# Altium footprint library LDO.PcbLib: 17 footprints (part 1 of 2)
Each footprint in its own frame and in the unit in brackets; x right, y up, seen from the top. Pads: shape width x height; smd on the part's side, far side on the other; paste and mask are expansions set on the pad; w line width, h text height; cw(c..) or ccw(c..) is an arc to the next point about the centre after c.
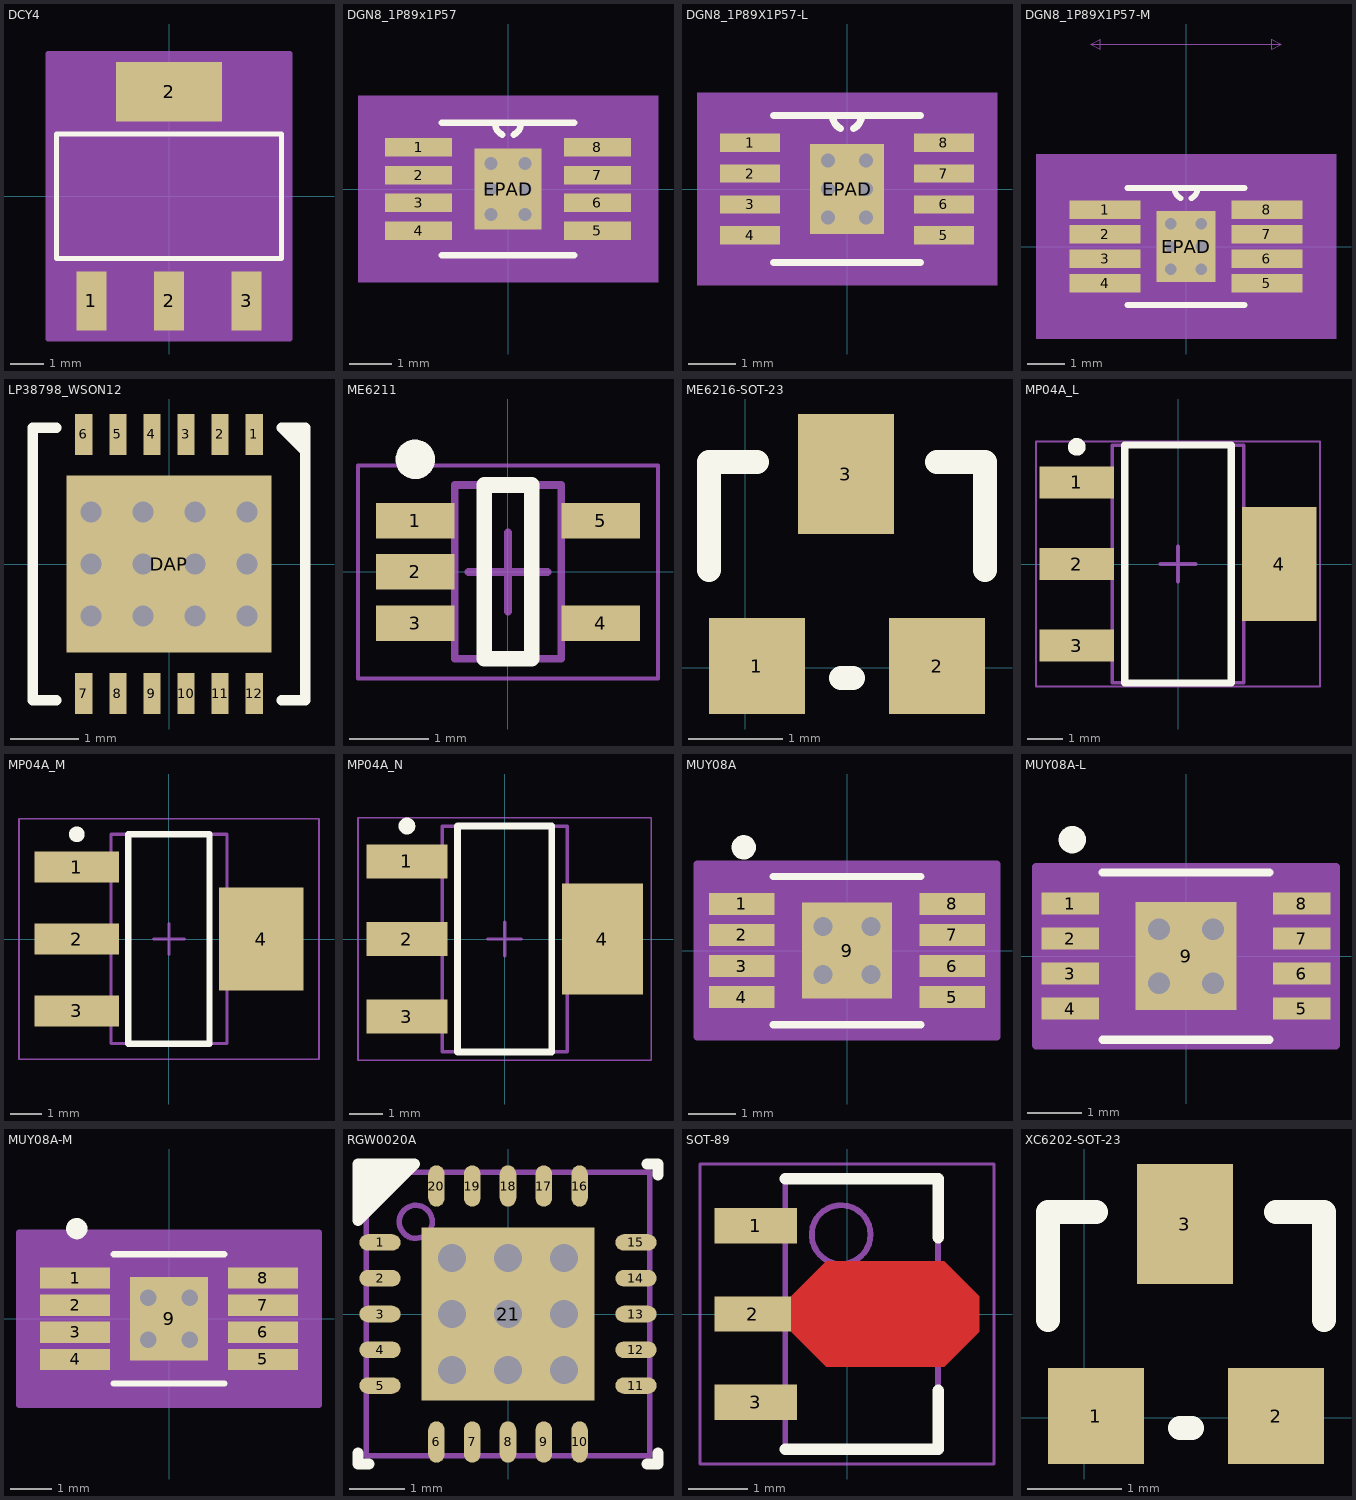
[diagram p0: the footprints below, top view; thin cyan lines are the x and y axes]

## DCY4 [mil]
pads (4):
  rect 35x69.5 smd: 1(-91,-122.75) 2(0,-122.75) 3(91,-122.75)
  rect 124x69.5 smd: 2(0,122.75)
Top Overlay:
  lines w6: -132,-73 -132,73 132,73 132,-73 -132,-73
Mechanical 15:
  region: 142,-167.5 -142,-167.5 -142,167.5 142,167.5
  lines w6: -142,-167.5 142,-167.5 142,167.5 -142,167.5 -142,-167.5
3D body "DCY0004A.stp": height 65.98, standoff 0, extent -127.94,-137 127.96,137.01

## DGN8_1P89x1P57 [mil]
pads (9):
  rect 62x17 smd: 1(-82.5,38.39) 2(-82.5,12.8) 3(-82.5,-12.8) 4(-82.5,-38.39) 5(82.5,-38.39) 6(82.5,-12.8) 7(82.5,12.8) 8(82.5,38.39)
  rect 61.81x74.41 smd paste-36.7: EPAD(0,0)
via -15.75,0 diameter 23.62 hole 11.81
via -15.75,23.62 diameter 23.62 hole 11.81
via 15.75,23.62 diameter 23.62 hole 11.81
via -15.75,-23.62 diameter 23.62 hole 11.81
via 15.75,-23.62 diameter 23.62 hole 11.81
via 15.75,0 diameter 23.62 hole 11.81
Top Overlay:
  lines w6: -61,-61 61,-61 ; -61,61 61,61 ; -12,61 ccw(c0,61) -5.44,50.3 ; 5.44,50.3 ccw(c0,61) 12,61
Top Paste:
  region: 30.91,37.2 -30.91,37.2 -30.91,-37.2 30.91,-37.2
Mechanical 5:
  region: 138.5,-86 -138.5,-86 -138.5,86 138.5,86
Mechanical 13:
  lines w0: -12,61 ccw(c0,61) 12,61
  lines w1: -99.5,-45.89 -61,-45.89 -61,-30.89 -99.5,-30.89 -99.5,-45.89 ; -99.5,-20.3 -61,-20.3 -61,-5.3 -99.5,-5.3 -99.5,-20.3 ; -99.5,5.3 -61,5.3 -61,20.3 -99.5,20.3 -99.5,5.3 ; -99.5,30.89 -61,30.89 -61,45.89 -99.5,45.89 -99.5,30.89 ; -61,-61 -61,61 61,61 61,-61 -61,-61 ; 61,-45.89 99.5,-45.89 99.5,-30.89 61,-30.89 61,-45.89 ; 61,-20.3 99.5,-20.3 99.5,-5.3 61,-5.3 61,-20.3 ; 61,5.3 99.5,5.3 99.5,20.3 61,20.3 61,5.3 ; 61,30.89 99.5,30.89 99.5,45.89 61,45.89 61,30.89
Mechanical 15:
  region: 123.5,-71 -123.5,-71 -123.5,71 123.5,71
  lines w6: -123.5,-71 123.5,-71 123.5,71 -123.5,71 -123.5,-71
3D body: height 10, standoff 0, extent 0,0 10,10

## DGN8_1P89X1P57-L [mil]
pads (9):
  rect 50x15 smd: 1(-80.5,38.39) 2(-80.5,12.8) 3(-80.5,-12.8) 4(-80.5,-38.39) 5(80.5,-38.39) 6(80.5,-12.8) 7(80.5,12.8) 8(80.5,38.39)
  rect 61.81x74.41 smd paste-36.7: EPAD(0,0)
via -15.75,-23.62 diameter 23.62 hole 11.81
via 15.75,0 diameter 23.62 hole 11.81
via -15.75,0 diameter 23.62 hole 11.81
via -15.75,23.62 diameter 23.62 hole 11.81
via 15.75,23.62 diameter 23.62 hole 11.81
via 15.75,-23.62 diameter 23.62 hole 11.81
Top Overlay:
  lines w6: -61,-61 61,-61 ; -61,61 61,61 ; -12,61 ccw(c0,61) -5.44,50.3 ; 5.44,50.3 ccw(c0,61) 12,61
Top Paste:
  region: 30.91,37.2 -30.91,37.2 -30.91,-37.2 30.91,-37.2
Mechanical 5:
  region: 124.5,-80 -124.5,-80 -124.5,80 124.5,80
Mechanical 13:
  lines w0: -12,61 ccw(c0,61) 12,61
  lines w1: -99.5,-45.89 -61,-45.89 -61,-30.89 -99.5,-30.89 -99.5,-45.89 ; -99.5,-20.3 -61,-20.3 -61,-5.3 -99.5,-5.3 -99.5,-20.3 ; -99.5,5.3 -61,5.3 -61,20.3 -99.5,20.3 -99.5,5.3 ; -99.5,30.89 -61,30.89 -61,45.89 -99.5,45.89 -99.5,30.89 ; -61,-61 -61,61 61,61 61,-61 -61,-61 ; 61,-45.89 99.5,-45.89 99.5,-30.89 61,-30.89 61,-45.89 ; 61,-20.3 99.5,-20.3 99.5,-5.3 61,-5.3 61,-20.3 ; 61,5.3 99.5,5.3 99.5,20.3 61,20.3 61,5.3 ; 61,30.89 99.5,30.89 99.5,45.89 61,45.89 61,30.89
Mechanical 15:
  region: 109.5,-65 -109.5,-65 -109.5,65 109.5,65
  lines w6: -109.5,-65 109.5,-65 109.5,65 -109.5,65 -109.5,-65
3D body: height 10, standoff 0, extent 0,0 10,10

## DGN8_1P89X1P57-M [mil]
pads (9):
  rect 74x19 smd: 1(-84.5,38.39) 2(-84.5,12.8) 3(-84.5,-12.8) 4(-84.5,-38.39) 5(84.5,-38.39) 6(84.5,-12.8) 7(84.5,12.8) 8(84.5,38.39)
  rect 61.81x74.41 smd paste-36.7: EPAD(0,0)
via 15.75,23.62 diameter 23.62 hole 11.81
via -15.75,23.62 diameter 23.62 hole 11.81
via 15.75,-23.62 diameter 23.62 hole 11.81
via -15.75,-23.62 diameter 23.62 hole 11.81
via -15.75,0 diameter 23.62 hole 11.81
via 15.75,0 diameter 23.62 hole 11.81
Top Overlay:
  lines w6: -61,-61 61,-61 ; -61,61 61,61 ; -12,61 ccw(c0,61) -5.44,50.3 ; 5.44,50.3 ccw(c0,61) 12,61
Top Paste:
  region: 30.91,37.2 -30.91,37.2 -30.91,-37.2 30.91,-37.2
Mechanical 5:
  region: 156.5,-96 -156.5,-96 -156.5,96 156.5,96
Mechanical 7:
  lines w1: -99.5,211 -89.5,206 -89.5,216 -99.5,211 ; -99.5,211 99.5,211 ; 99.5,211 89.5,206 89.5,216 99.5,211
  text ".199in/5.055mm" at -87.5,231 h25
Mechanical 13:
  lines w0: -12,61 ccw(c0,61) 12,61
  lines w1: -99.5,-45.89 -61,-45.89 -61,-30.89 -99.5,-30.89 -99.5,-45.89 ; -99.5,-20.3 -61,-20.3 -61,-5.3 -99.5,-5.3 -99.5,-20.3 ; -99.5,5.3 -61,5.3 -61,20.3 -99.5,20.3 -99.5,5.3 ; -99.5,30.89 -61,30.89 -61,45.89 -99.5,45.89 -99.5,30.89 ; -61,-61 -61,61 61,61 61,-61 -61,-61 ; 61,-45.89 99.5,-45.89 99.5,-30.89 61,-30.89 61,-45.89 ; 61,-20.3 99.5,-20.3 99.5,-5.3 61,-5.3 61,-20.3 ; 61,5.3 99.5,5.3 99.5,20.3 61,20.3 61,5.3 ; 61,30.89 99.5,30.89 99.5,45.89 61,45.89 61,30.89
Mechanical 15:
  region: 141.5,-81 -141.5,-81 -141.5,81 141.5,81
  lines w6: -141.5,-81 141.5,-81 141.5,81 -141.5,81 -141.5,-81
3D body: height 10, standoff 0, extent 0,0 10,10

## LP38798_WSON12 [mm]
pads (13):
  rect 0.25x0.6 smd: 1(1.25,1.9) 2(0.75,1.9) 3(0.25,1.9) 4(-0.25,1.9) 5(-0.75,1.9) 6(-1.25,1.9) 7(-1.25,-1.9) 8(-0.75,-1.9) 9(-0.25,-1.9) 10(0.25,-1.9) 11(0.75,-1.9) 12(1.25,-1.9)
  rect 3x2.6 smd: DAP(0,0)
via -0.381,0 diameter 0.61 hole 0.305
via 0.381,0 diameter 0.61 hole 0.305
via -0.381,0.762 diameter 0.61 hole 0.305
via 0.381,0.762 diameter 0.61 hole 0.305
via 1.143,0 diameter 0.61 hole 0.305
via -1.143,0 diameter 0.61 hole 0.305
via -0.381,-0.762 diameter 0.61 hole 0.305
via 0.381,-0.762 diameter 0.61 hole 0.305
via 1.143,-0.762 diameter 0.61 hole 0.305
via -1.143,-0.762 diameter 0.61 hole 0.305
via -1.143,0.762 diameter 0.61 hole 0.305
via 1.143,0.762 diameter 0.61 hole 0.305
Top Overlay:
  region: 1.651,2 2,2 2,1.651
  lines w0.152: -1.651,-2 -2,-2 -2,2 -1.651,2 ; 1.651,-2 2,-2 2,2 1.651,2 2,1.651

## ME6211 [mm] "SOT23, 5-Leads, Body 2.10x2.30mm, Pitch 0.65mm, IPC Medium Density"
height 1.1
pads (5):
  rect 1x0.45 smd: 1(-1.175,0.65) 2(-1.175,0) 3(-1.175,-0.65) 4(1.175,-0.65) 5(1.175,0.65)
Top Overlay:
  circle w0.25: c-1.175,1.425 r0.125
  lines w0.2: -0.3,-1.1 -0.3,1.1 0.3,1.1 0.3,-1.1 -0.3,-1.1
Mechanical 13:
  lines w0.1: -0.675,-1.1 0.675,-1.1 0.675,1.1 -0.675,1.1 -0.675,-1.1
Mechanical 15:
  lines w0.05: -1.9,-1.35 1.9,-1.35 1.9,1.35 -1.9,1.35 -1.9,-1.35
  lines w0.1: -0.5,0 0.5,0 ; 0,-0.5 0,0.5
3D body "ME6211.step": height 1.1, standoff 0, extent -1.3,-1.1 1.3,1.1

## ME6216-SOT-23 [mil]
pads (3):
  rect 40x40 smd: 1(4.88,0.63) 2(79.88,0.63)
  rect 40x50 smd: 3(41.88,80.63)
Top Overlay:
  lines w10: -15.12,40.63 -15.12,85.63 4.88,85.63 ; 39.88,-4.37 44.88,-4.37 ; 79.88,85.63 99.88,85.63 99.88,40.63
3D body "SOT-23-3.STEP": height 47.24, standoff 0, extent -14.87,-11.02 99.3,99.22

## MP04A_L [mm] "SOT223, 4-Leads, Body 6.5x3.5mm, Pitch 2.3mm, Lead Span 7mm, IPC High Density"
height 1.8
pads (4):
  rect 2.1x0.9 smd: 1(-2.85,2.3) 2(-2.85,0) 3(-2.85,-2.3)
  rect 2.1x3.2 smd: 4(2.85,0)
Top Overlay:
  circle w0.25: c-2.85,3.3 r0.125
  lines w0.2: -1.5,-3.35 1.5,-3.35 1.5,3.35 -1.5,3.35 -1.5,-3.35
Mechanical 13:
  lines w0.1: -1.855,-3.35 1.855,-3.35 1.855,3.35 -1.855,3.35 -1.855,-3.35
Mechanical 15:
  lines w0.05: -4,-3.45 4,-3.45 4,3.45 -4,3.45 -4,-3.45
  lines w0.1: -0.5,0 0.5,0 ; 0,-0.5 0,0.5
3D body: height 1.8, standoff 0.03, extent -1.855,-3.35 1.855,3.35

## MP04A_M [mm] "SOT223, 4-Leads, Body 6.5x3.5mm, Pitch 2.3mm, Lead Span 7mm, IPC Low Density"
height 1.8
pads (4):
  rect 2.7x1 smd: 1(-2.95,2.3) 2(-2.95,0) 3(-2.95,-2.3)
  rect 2.7x3.3 smd: 4(2.95,0)
Top Overlay:
  circle w0.25: c-2.95,3.35 r0.125
  lines w0.2: -1.3,-3.35 -1.3,3.35 1.3,3.35 1.3,-3.35 -1.3,-3.35
Mechanical 13:
  lines w0.1: -1.855,-3.35 -1.855,3.35 1.855,3.35 1.855,-3.35 -1.855,-3.35
Mechanical 15:
  lines w0.05: -4.8,-3.85 -4.8,3.85 4.8,3.85 4.8,-3.85 -4.8,-3.85
  lines w0.1: -0.5,0 0.5,0 ; 0,-0.5 0,0.5
3D body: height 1.8, standoff 0.03, extent -1.855,-3.35 1.855,3.35

## MP04A_N [mm] "SOT223, 4-Leads, Body 6.5x3.5mm, Pitch 2.3mm, Lead Span 7mm, IPC Medium Density"
height 1.8
pads (4):
  rect 2.4x1 smd: 1(-2.9,2.3) 2(-2.9,0) 3(-2.9,-2.3)
  rect 2.4x3.3 smd: 4(2.9,0)
Top Overlay:
  circle w0.25: c-2.9,3.35 r0.125
  lines w0.2: -1.4,-3.35 -1.4,3.35 1.4,3.35 1.4,-3.35 -1.4,-3.35
Mechanical 13:
  lines w0.1: -1.855,-3.35 -1.855,3.35 1.855,3.35 1.855,-3.35 -1.855,-3.35
Mechanical 15:
  lines w0.05: -4.35,-3.6 -4.35,3.6 4.35,3.6 4.35,-3.6 -4.35,-3.6
  lines w0.1: -0.5,0 0.5,0 ; 0,-0.5 0,0.5
3D body: height 1.8, standoff 0.03, extent -1.855,-3.35 1.855,3.35

## MUY08A [mil]
pads (9):
  rect 54x18 smd mask+4: 1(-86.5,38.39) 2(-86.5,12.8) 3(-86.5,-12.8) 4(-86.5,-38.39) 5(86.5,-38.39) 6(86.5,-12.8) 7(86.5,12.8) 8(86.5,38.39)
  rect 74x79 smd: 9(0,0)
via 19.68,-19.68 diameter 31.5 hole 15.75
via -19.68,-19.68 diameter 31.5 hole 15.75
via 19.68,19.68 diameter 31.5 hole 15.75
via -19.68,19.68 diameter 31.5 hole 15.75
Top Overlay:
  circle w10: c-85,85 r5
  lines w6: -61,-61 61,-61 ; -61,61 61,61
Mechanical 13:
  lines w0: -12,61 ccw(c0,61) 12,61
Mechanical 15:
  region: 123.5,-71 -123.5,-71 -123.5,71 123.5,71
  lines w6: -123.5,-71 123.5,-71 123.5,71 -123.5,71 -123.5,-71
3D body "DGN0008A.stp": height 37.5, standoff -0.5, extent -96.49,-59 96.51,59

## MUY08A-L [mil]
pads (9):
  rect 42x16 smd mask+4: 1(-84.5,38.39) 2(-84.5,12.8) 3(-84.5,-12.8) 4(-84.5,-38.39) 5(84.5,-38.39) 6(84.5,-12.8) 7(84.5,12.8) 8(84.5,38.39)
  rect 74x79 smd: 9(0,0)
via 19.68,-19.68 diameter 31.5 hole 15.75
via -19.68,-19.68 diameter 31.5 hole 15.75
via 19.68,19.68 diameter 31.5 hole 15.75
via -19.68,19.68 diameter 31.5 hole 15.75
Top Overlay:
  circle w10: c-83,85 r5
  lines w6: -61,-61 61,-61 ; -61,61 61,61
Mechanical 13:
  lines w0: -12,61 ccw(c0,61) 12,61
Mechanical 15:
  region: 109.5,-65 -109.5,-65 -109.5,65 109.5,65
  lines w6: -109.5,-65 -109.5,65 109.5,65 109.5,-65 -109.5,-65
3D body "DGN0008A.stp": height 37.5, standoff -0.5, extent -96.49,-59 96.51,59

## MUY08A-M [mil]
pads (9):
  rect 66x20 smd mask+4: 1(-88.5,38.39) 2(-88.5,12.8) 3(-88.5,-12.8) 4(-88.5,-38.39) 5(88.5,-38.39) 6(88.5,-12.8) 7(88.5,12.8) 8(88.5,38.39)
  rect 74x79 smd: 9(0,0)
via -19.68,19.68 diameter 31.5 hole 15.75
via 19.68,19.68 diameter 31.5 hole 15.75
via -19.68,-19.68 diameter 31.5 hole 15.75
via 19.68,-19.68 diameter 31.5 hole 15.75
Top Overlay:
  circle w10: c-87,85 r5
  lines w6: -51.97,-61 51.97,-61 ; -51.97,61 51.97,61
Mechanical 13:
  lines w0: -12,61 ccw(c0,61) 12,61
Mechanical 15:
  region: 141.5,-81 -141.5,-81 -141.5,81 141.5,81
  lines w6: -141.5,-81 -141.5,81 141.5,81 141.5,-81 -141.5,-81
3D body "DGN0008A.stp": height 37.5, standoff -0.5, extent -96.49,-59 96.51,59

## RGW0020A [mm]
pads (21):
  oval 0.75x0.3 smd paste+0 mask+0.051: 1(-2.325,1.3) 2(-2.325,0.65) 3(-2.325,0) 4(-2.325,-0.65) 5(-2.325,-1.3) 11(2.325,-1.3) 12(2.325,-0.65) 13(2.325,0) 14(2.325,0.65) 15(2.325,1.3)
  oval 0.3x0.75 smd paste+0 mask+0.051: 6(-1.3,-2.325) 7(-0.65,-2.325) 8(0,-2.325) 9(0.65,-2.325) 10(1.3,-2.325) 16(1.3,2.325) 17(0.65,2.325) 18(0,2.325) 19(-0.65,2.325) 20(-1.3,2.325)
  rect 3.15x3.15 smd paste-1.562 mask+0.051: 21(0,0)
via 1.016,-1.016 diameter 0.914 hole 0.508
via 0,-1.016 diameter 0.914 hole 0.508
via -1.016,-1.016 diameter 0.914 hole 0.508
via 1.016,0 diameter 0.914 hole 0.508
via 0,0 diameter 0.914 hole 0.508
via -1.016,0 diameter 0.914 hole 0.508
via 1.016,1.016 diameter 0.914 hole 0.508
via 0,1.016 diameter 0.914 hole 0.508
via -1.016,1.016 diameter 0.914 hole 0.508
Top Overlay:
  region: -2.725,2.725 -2.725,1.7 -1.7,2.725
  lines w0.2: -2.725,-2.525 -2.725,-2.725 -2.525,-2.725 ; 2.525,-2.725 2.725,-2.725 2.725,-2.525 ; 2.525,2.725 2.725,2.725 2.725,2.525 ; -2.725,1.7 -1.7,2.725 -2.725,2.725 -2.725,1.7
Top Paste:
  region: 0.1,-0.1 0.1,-1.468 1.468,-1.468 1.468,-0.1
  region: -0.1,-1.468 -0.1,-0.1 -1.468,-0.1 -1.468,-1.468
  region: -0.1,0.1 -0.1,1.468 -1.468,1.468 -1.468,0.1
  region: 0.1,1.468 0.1,0.1 1.468,0.1 1.468,1.468
Mechanical 13:
  circle w0.1: c-1.675,1.675 r0.3
  lines w0.1: -2.575,-2.575 2.575,-2.575 2.575,2.575 -2.575,2.575 -2.575,-2.575
3D body: height 1, standoff 0, extent -2.575,-2.575 2.575,2.575

## SOT-89 [mm] "SOT89, 3-Leads, Body 4.50x2.50mm, Pitch 1.50mm, Lead Span 3.5mm, IPC Medium Density"
height 1.6
pads (3):
  rect 1.4x0.6 smd: 1(-1.55,1.5) 3(-1.55,-1.5)
  rect 1.3x0.6 smd: 2(-1.6,0)
Top Layer:
  region: -0.95,0.3 -0.35,0.9 1.65,0.9 2.25,0.3 2.25,-0.3 1.65,-0.9 -0.35,-0.9 -0.95,-0.3
Top Overlay:
  lines w0.2: -1.05,-2.3 1.55,-2.3 1.55,-1.3 ; -1.05,2.3 1.55,2.3 1.55,1.3
Mechanical 13:
  circle w0.1: c-0.1,1.35 r0.5
  lines w0.1: -1.05,-2.3 1.55,-2.3 1.55,2.3 -1.05,2.3 -1.05,-2.3
Mechanical 15:
  lines w0.05: -2.5,-2.55 2.5,-2.55 2.5,2.55 -2.5,2.55 -2.5,-2.55
  lines w0.1: -0.25,0 0.75,0 ; 0.25,-0.5 0.25,0.5
3D body "SOT89.step": height 1.6, standoff 0, extent -2.2,-2.3 1.85,2.3

## XC6202-SOT-23 [mil]
pads (3):
  rect 40x40 smd: 1(4.88,0.63) 2(79.88,0.63)
  rect 40x50 smd: 3(41.88,80.63)
Top Overlay:
  lines w10: -15.12,40.63 -15.12,85.63 4.88,85.63 ; 39.88,-4.37 44.88,-4.37 ; 79.88,85.63 99.88,85.63 99.88,40.63
3D body "SOT-23-3.STEP": height 47.24, standoff 0, extent -14.87,-11.02 99.3,99.22